# Altium footprint library Memory Protection Devices.PcbLib: 1 footprints
Each footprint in its own frame and in the unit in brackets; x right, y up, seen from the top. Pads: shape width x height; smd on the part's side, far side on the other; paste and mask are expansions set on the pad; w line width, h text height; cw(c..) or ccw(c..) is an arc to the next point about the centre after c.
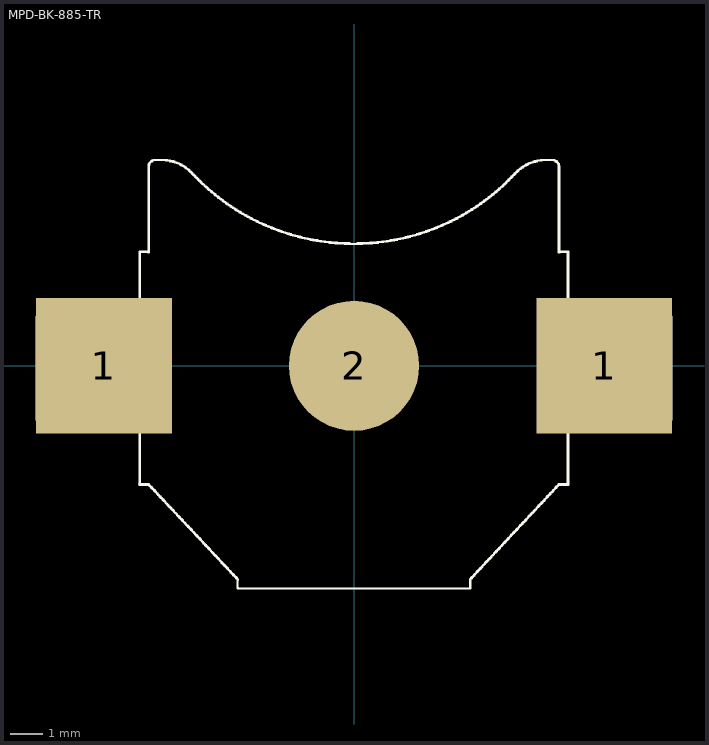
[diagram p0: the footprint, top view; thin cyan lines are the x and y axes]

## MPD-BK-885-TR [mm] "HOLDER COIN CELL 12MM SMD"
height 3.17
pads (3):
  rect 4.17x4.17 smd: 1(-7.685,0) 1(7.685,0)
  round 4 smd: 2(0,0)
Top Overlay:
  drawing of 2051 lines, arcs and shapes, not listed
Top Solder:
  circle w6.26: c0,0 r3.125
3D body: height 3.17, standoff 0, extent -9.78,-6.35 9.78,6.35